# Altium schematic symbol library SCH - MCU - INFINEON XMC - INFINEON XMC1202Q024.SchLib: 1 symbol
Pins are listed as number, name and electrical type; pins without a type are passive.

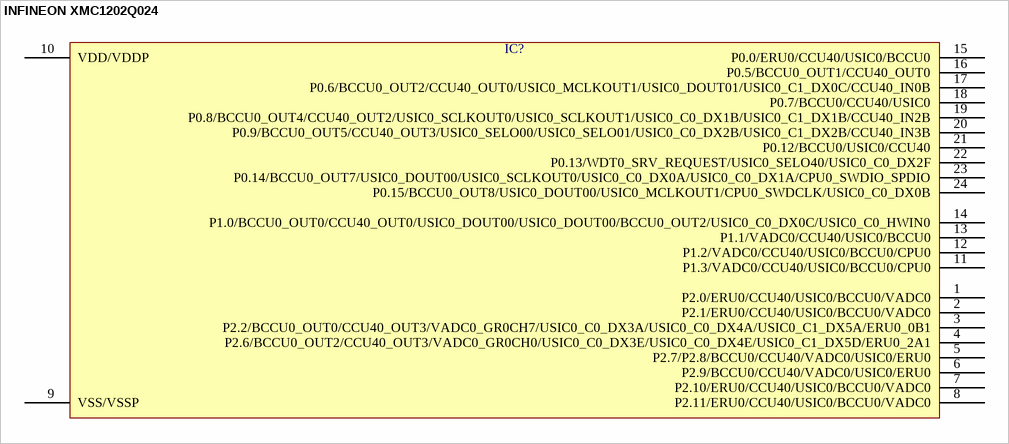
[diagram p0: symbol INFINEON XMC1202Q024]

## INFINEON XMC1202Q024
designator IC?  (value not drawn)
pins: 1 P2.0/ERU0/CCU40/USIC0/BCCU0/VADC0, 2 P2.1/ERU0/CCU40/USIC0/BCCU0/VADC0, 3 P2.2/BCCU0_OUT0/CCU40_OUT3/VADC0_GR0CH7/USIC0_C0_DX3A/USIC0_C0_DX4A/USIC0_C1_DX5A/ERU0_0B1, 4 P2.6/BCCU0_OUT2/CCU40_OUT3/VADC0_GR0CH0/USIC0_C0_DX3E/USIC0_C0_DX4E/USIC0_C1_DX5D/ERU0_2A1, 5 P2.7/P2.8/BCCU0/CCU40/VADC0/USIC0/ERU0, 6 P2.9/BCCU0/CCU40/VADC0/USIC0/ERU0, 7 P2.10/ERU0/CCU40/USIC0/BCCU0/VADC0, 8 P2.11/ERU0/CCU40/USIC0/BCCU0/VADC0, 9 VSS/VSSP, 10 VDD/VDDP, 11 P1.3/VADC0/CCU40/USIC0/BCCU0/CPU0, 12 P1.2/VADC0/CCU40/USIC0/BCCU0/CPU0, 13 P1.1/VADC0/CCU40/USIC0/BCCU0, 14 P1.0/BCCU0_OUT0/CCU40_OUT0/USIC0_DOUT00/USIC0_DOUT00/BCCU0_OUT2/USIC0_C0_DX0C/USIC0_C0_HWIN0, 15 P0.0/ERU0/CCU40/USIC0/BCCU0, 16 P0.5/BCCU0_OUT1/CCU40_OUT0, 17 P0.6/BCCU0_OUT2/CCU40_OUT0/USIC0_MCLKOUT1/USIC0_DOUT01/USIC0_C1_DX0C/CCU40_IN0B, 18 P0.7/BCCU0/CCU40/USIC0, 19 P0.8/BCCU0_OUT4/CCU40_OUT2/USIC0_SCLKOUT0/USIC0_SCLKOUT1/USIC0_C0_DX1B/USIC0_C1_DX1B/CCU40_IN2B, 20 P0.9/BCCU0_OUT5/CCU40_OUT3/USIC0_SELO00/USIC0_SELO01/USIC0_C0_DX2B/USIC0_C1_DX2B/CCU40_IN3B, 21 P0.12/BCCU0/USIC0/CCU40, 22 P0.13/WDT0_SRV_REQUEST/USIC0_SELO40/USIC0_C0_DX2F, 23 P0.14/BCCU0_OUT7/USIC0_DOUT00/USIC0_SCLKOUT0/USIC0_C0_DX0A/USIC0_C0_DX1A/CPU0_SWDIO_SPDIO, 24 P0.15/BCCU0_OUT8/USIC0_DOUT00/USIC0_MCLKOUT1/CPU0_SWDCLK/USIC0_C0_DX0B